# Altium schematic symbol library AD9245BCPZ-40.SchLib: 2 symbols
Pins are listed as number, name and electrical type; pins without a type are passive.

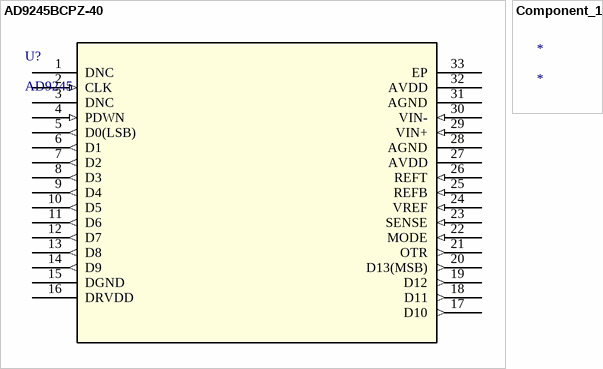
[diagram p0: symbols AD9245BCPZ-40 to Component_1]

## AD9245BCPZ-40
designator U?, comment AD9245
Manufacturer_Part_Number: AD9245BCPZ-40; Vendor: Analog Devices Inc; Built_By: EMA_UL_Team; C: Copyright (C) 2015 Accelerated Designs. All rights reserved; RefDes: RefDes; Type: DEV; Value: Value
footprint CP_32_2
pins: 1 DNC, 2 CLK (in), 3 DNC, 4 PDWN (in), 5 D0(LSB) (out), 6 D1 (out), 7 D2 (out), 8 D3 (out), 9 D4 (out), 10 D5 (out), 11 D6 (out), 12 D7 (out), 13 D8 (out), 14 D9 (out), 15 DGND, 16 DRVDD (power), 17 D10 (out), 18 D11 (out), 19 D12 (out), 20 D13(MSB) (out), 21 OTR (out), 22 MODE (in), 23 SENSE (in), 24 VREF (in), 25 REFB (in), 26 REFT (in), 27 AVDD (power), 28 AGND, 29 VIN+ (in), 30 VIN- (in), 31 AGND, 32 AVDD (power), 33 EP

## Component_1
designator *